# Altium footprint library OLED.PcbLib: 1 footprints
Each footprint in its own frame and in the unit in brackets; x right, y up, seen from the top. Pads: shape width x height; smd on the part's side, far side on the other; paste and mask are expansions set on the pad; w line width, h text height; cw(c..) or ccw(c..) is an arc to the next point about the centre after c.
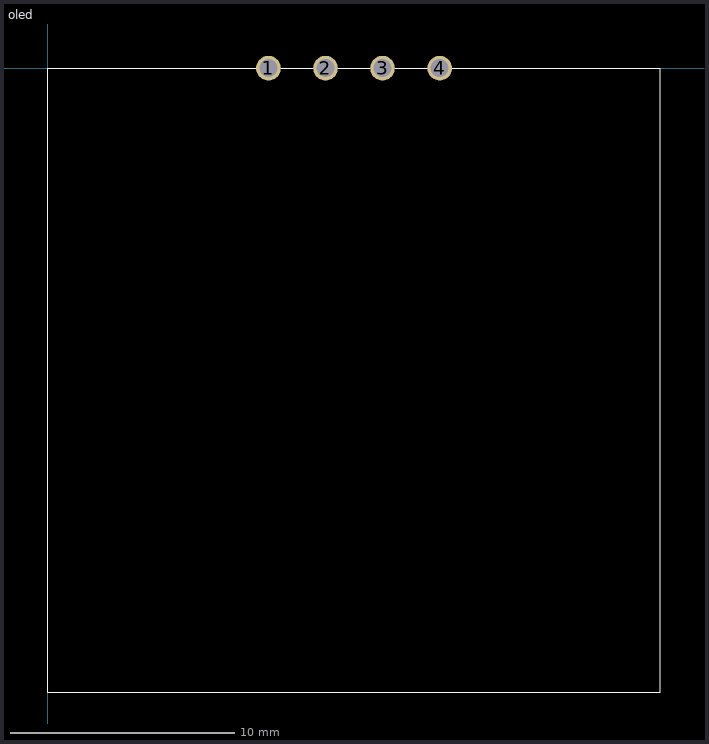
[diagram p0: the footprint, top view; thin cyan lines are the x and y axes]

## oled [mm]
pads (4):
  round 1.1 hole 0.8: 1(9.84,0) 2(12.38,0) 3(14.92,0) 4(17.467,0)
Top Overlay:
  lines w0.01: 0,-27.8 0,0 27.3,0 27.3,-27.8 0,-27.8